# Altium schematic symbol library MLX90614_with_Arduino.SCHLIB: 11 symbols
Pins are listed as number, name and electrical type; pins without a type are passive.

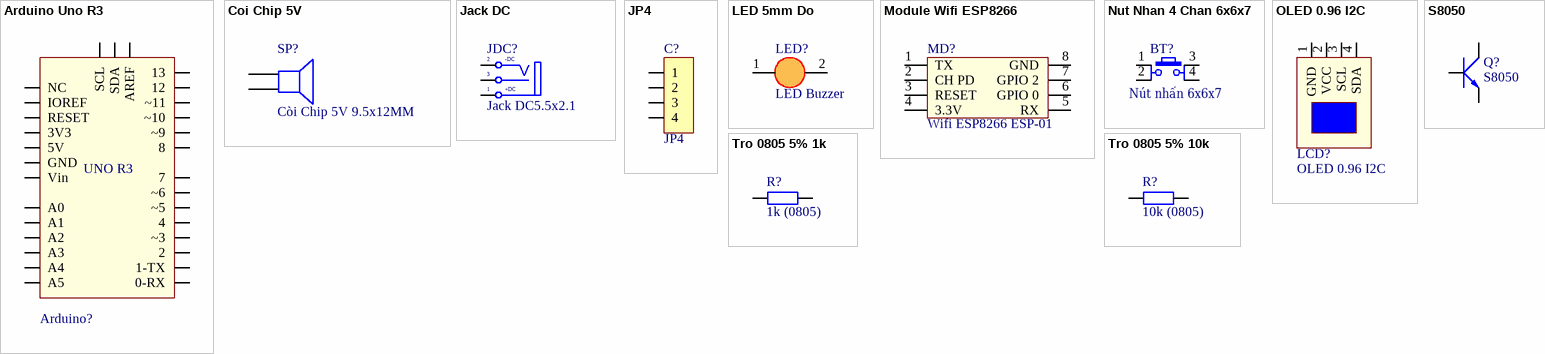
[diagram p0: symbols Arduino Uno R3 to Tro 0805 5% 10k]

## Arduino Uno R3
designator Arduino?  (value not drawn)
Value: Cau 1A
footprint Arduino UNO R3
pins: 0-RX, 1-TX, 2, 3V3, 4, 5V, 7, 8, 12, 13, A0, A1, A2, A3, A4, A5, AREF, GND, IOREF, NC, RESET, SCL, SDA, Vin, ~3, ~5, ~6, ~9, ~10, ~11
text: UNO R3

## Coi Chip 5V
designator SP?, comment Còi Chip 5V 9.5x12MM
Cắm; Don_Vi: Con; Ma_Hang: MH000902; Ten_Linh_Kien: Còi Chip 5V 9.5x12MM; Ghi_Chu: *; Kieu_Chan: *; Chung_Loai: Cắm
footprint SPEAKER
pins: 1, 2

## Jack DC
designator JDC?, comment Jack DC5.5x2.1
Cắm; Ten_Linh_Kien: Jack DC5.5x2.1MM DC5501; Ma_Hang: MH000923; Don_Vi: Con; Kieu_Chan: *; Ghi_Chu: *; Chung_Loai: Cắm
footprint DC-IN (Jac DC input)
pins: 1 T "Tip", 2 TN "Tip Normal (Break Contact)", 3 S (power) "Sleeve (Ground)"
text: -DC; +DC

## JP4
designator C?
WR-PHD 2.54 mm Angled Socket Header; Manufacturer: W¨¹rth Elektronik eiSos GmbH; partNo: 613004143121; ComponentLink1 Description: Manufacturer; ComponentLink2 Description: Datasheet; NoPins: 04; Created Date: 29 March 2013; ComponentLink1URL: http://www.we-online.com; ComponentLink2URL: http://katalog.we-online.de/em/datasheet/6130xx143121.pdf; Created by: Karrer Zheng
footprint JP4-C1T (4 row, straight, gold plating)
footprint JP4-D1C (4 pins, 1 row, right angled, gold plating)
footprint JP4-C1C (04p 1 row Right angle)
footprint JP4-D1C (4 pins, 1 row, right angled, gold plating)
pins: 1, 2, 3, 4

## LED 5mm Do
designator LED?, comment LED Buzzer
Cắm; Ten_Linh_Kien: LED 3MM Xanh Lá ( SS); Ma_Hang: MH004935; Don_Vi: Con; Ghi_Chu: *; Kieu_Chan: *; Chung_Loai: Cắm
footprint LED 5mm DO (LED 2 PIN, 5 ly , Only colour, pin to pin 110mil)
pins: 1 A, 2 K

## Module Wifi ESP8266
designator MD?, comment Wifi ESP8266 ESP-01
Cắm; So_Chan: 8; Don_Vi: Con; Ten_Linh_Kien: Module Wifi ESP8266 ESP-01; Ma_Hang: Mh003800; Chung_Loai: Cắm; Kieu_Chan: *
footprint module esp8266
pins: 1 TX, 2 CH PD, 3 RESET, 4 3.3V, 5 RX, 6 GPIO 0, 7 GPIO 2, 8 GND

## Nut Nhan 4 Chan 6x6x7
designator BT?, comment Nút nhấn 6x6x7
Cắm; Don_Vi: Con; Ten_Linh_Kien: Nút Nhấn 4 Chân 6x6x7MM DIP; Ma_Hang: MH007487; Chung_Loai: Cắm
footprint Nut Nhan 4 Chan 6x6 (SW button 4pin, 250 x250 mil)
pins: 1, 2, 3, 4

## OLED 0.96 I2C
designator LCD?
footprint OLED 0.96 I2C Dung
footprint OLED 0.96 I2C NGANG
pins: 1 GND, 2 VCC, 3 SCL, 4 SDA

## S8050
designator Q?
Dán; Don_Vi: Con; Ten_Linh_Kien: S8050 SOT23 Trans NPN 0.5A 40V (J3Y); Ma_Hang: MH004708; Chung_Loai: Dán
footprint SOT23B (SOT 23B)
pins: 1 B, 2 E, 3 C

## Tro 0805 5% 1k
designator R?, comment 1k (0805)
Dán; Don_Vi: Con; So_Chan: 2; Ten_Linh_Kien: Trở 0805 5% 1k; Ma_Hang: MH005234; Chung_Loai: Dán; Kieu_Chan: *
footprint tro 0805
pins: 1, 2

## Tro 0805 5% 10k
designator R?, comment 10k (0805)
Dán; Don_Vi: Con; So_Chan: 2; Ten_Linh_Kien: Trở 0805 5% 10k; Ma_Hang: MH005239; Chung_Loai: Dán; Kieu_Chan: *
footprint tro 0805
pins: 1, 2